# EAGLE library part 2POT (library Parts)
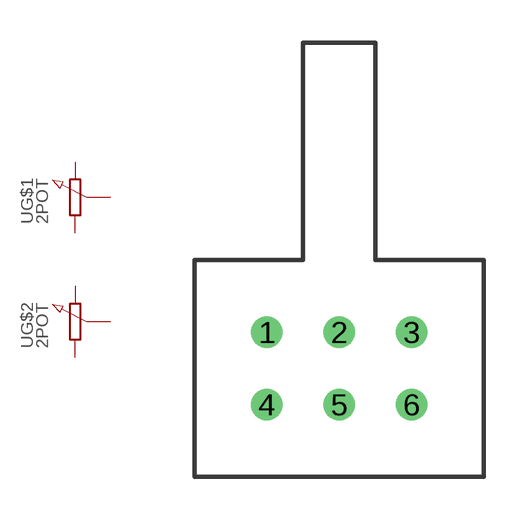
[diagram p5: symbol with the pads of 2POT; footprint 2POT]

Designator prefix -; gates G$1=POT_EU G$2=POT_EU

## 2POT  [2POT]
1  G$1:1  pas
2  G$1:2  pas
3  G$1:3  pas
4  G$2:1  pas
5  G$2:2  pas
6  G$2:3  pas

## Footprint 2POT (pad centres in mm)
drill 0.6: 1 -2.54,0; 2 0,0; 3 2.54,0; 4 -2.54,-2.54; 5 0,-2.54; 6 2.54,-2.54